# Altium footprint library Discrete.PcbLib: 16 footprints
Each footprint in its own frame and in the unit in brackets; x right, y up, seen from the top. Pads: shape width x height; smd on the part's side, far side on the other; paste and mask are expansions set on the pad; w line width, h text height; cw(c..) or ccw(c..) is an arc to the next point about the centre after c.
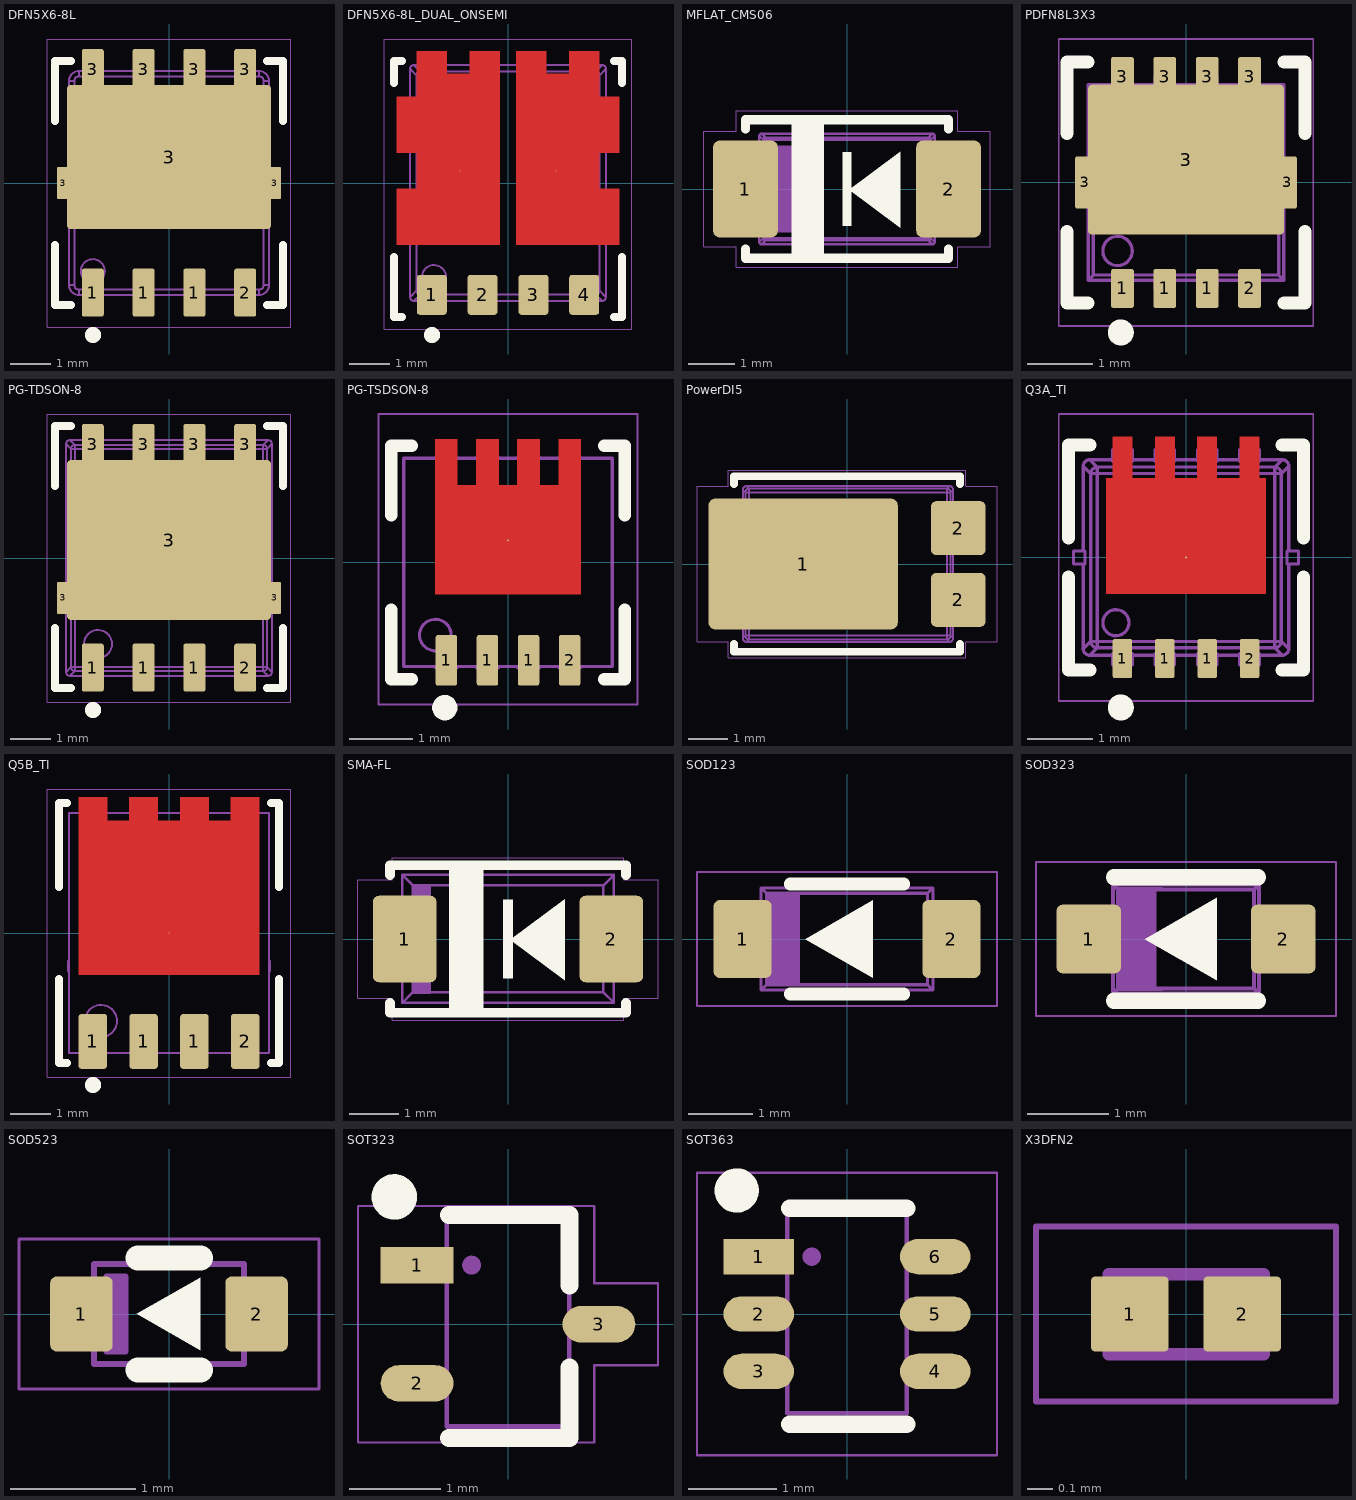
[diagram p0: the footprints below, top view; thin cyan lines are the x and y axes]

## DFN5X6-8L [mm] "Power 5mm x 6mm"
height 1
pads (11):
  rrect20% 0.55x1.2 smd paste-0.05 mask+0.05: 1(-1.905,-2.74) 1(-0.635,-2.74) 1(0.635,-2.74) 2(1.905,-2.74)
  rrect20% 0.3x0.8 smd paste-1 mask+0.05: 3(-2.65,0) 3(2.65,0)
  rrect20% 0.55x1 smd paste-0.05 mask+0.05: 3(-1.905,2.85) 3(-0.635,2.85) 3(0.635,2.85) 3(1.905,2.85)
  rrect5% 5.1x3.6 smd paste-3 mask+0.05: 3(0,0.65)
Top Overlay:
  circle w0.2: c-1.9,-3.8 r0.1
  lines w0.2: -2.85,-1.55 -2.85,-3.05 -2.45,-3.05 ; -2.85,1.55 -2.85,3.05 -2.45,3.05 ; 2.45,-3.05 2.85,-3.05 2.85,-1.55 ; 2.45,3.05 2.85,3.05 2.85,1.55
Top Paste:
  rectangle: -1.5,-0.9 -0.9,-0.3
  rectangle: -2.3,-0.9 -1.7,-0.3
  rectangle: -1.5,-0.1 -0.9,0.5
  rectangle: -2.3,-0.1 -1.7,0.5
  region: -0.9,1.3 -1.5,1.3 -1.5,0.7 -0.9,0.7
  region: -1.7,1.3 -2.3,1.3 -2.3,0.7 -1.7,0.7
  region: -0.9,2.1 -1.5,2.1 -1.5,1.5 -0.9,1.5
  region: -1.7,2.1 -2.3,2.1 -2.3,1.5 -1.7,1.5
  rectangle: -0.7,-0.9 -0.1,-0.3
  rectangle: -0.7,-0.1 -0.1,0.5
  region: -0.1,1.3 -0.7,1.3 -0.7,0.7 -0.1,0.7
  region: -0.1,2.1 -0.7,2.1 -0.7,1.5 -0.1,1.5
  rectangle: 0.1,-0.9 0.7,-0.3
  rectangle: 0.1,-0.1 0.7,0.5
  region: 0.7,1.3 0.1,1.3 0.1,0.7 0.7,0.7
  region: 0.7,2.1 0.1,2.1 0.1,1.5 0.7,1.5
  rectangle: 0.9,-0.9 1.5,-0.3
  rectangle: 0.9,-0.1 1.5,0.5
  region: 1.5,1.3 0.9,1.3 0.9,0.7 1.5,0.7
  region: 1.5,2.1 0.9,2.1 0.9,1.5 1.5,1.5
  rectangle: 1.7,-0.9 2.3,-0.3
  rectangle: 1.7,-0.1 2.3,0.5
  region: 2.3,1.3 1.7,1.3 1.7,0.7 2.3,0.7
  region: 2.3,2.1 1.7,2.1 1.7,1.5 2.3,1.5
Top Courtyard:
  lines w0.025: -3.05,-3.6 -3.05,3.6 3.05,3.6 3.05,-3.6 -3.05,-3.6
Top Assembly:
  circle w0.05: c-1.905,-2.205 r0.3
  lines w0.05: -2.5,-0.15 -2.65,-0.15 -2.65,0.15 -2.5,0.15 ; -2.115,-2.8 -2.115,-3.04 -1.695,-3.04 -1.695,-2.8 ; -2.115,2.8 -2.115,3.04 -1.695,3.04 -1.695,2.8 ; -0.845,-2.8 -0.845,-3.04 -0.425,-3.04 -0.425,-2.8 ; -0.845,2.8 -0.845,3.04 -0.425,3.04 -0.425,2.8 ; 0.425,-2.8 0.425,-3.04 0.845,-3.04 0.845,-2.8 ; 0.425,2.8 0.425,3.04 0.845,3.04 0.845,2.8 ; 1.695,-2.8 1.695,-3.04 2.115,-3.04 2.115,-2.8 ; 1.695,2.8 1.695,3.04 2.115,3.04 2.115,2.8 ; 2.5,-0.15 2.65,-0.15 2.65,0.15 2.5,0.15 ; -2.5,-2.55 ccw(c-2.25,-2.55) -2.25,-2.8 ; -2.5,-2.55 -2.368,-2.55 ; -2.5,-2.55 -2.5,2.55 ; -2.5,2.55 cw(c-2.25,2.55) -2.25,2.8 ; -2.5,2.55 -2.368,2.55 ; -2.368,-2.55 ccw(c-2.25,-2.55) -2.25,-2.668 ; -2.368,-2.55 -2.368,2.55 ; -2.368,2.55 cw(c-2.25,2.55) -2.25,2.668 ; -2.25,-2.8 -2.25,-2.668 ; -2.25,-2.8 2.25,-2.8 ; -2.25,-2.668 2.25,-2.668 ; -2.25,2.668 2.25,2.668 ; -2.25,2.668 -2.25,2.8 ; -2.25,2.8 2.25,2.8 ; 2.25,-2.8 ccw(c2.25,-2.55) 2.5,-2.55 ; 2.25,-2.8 2.25,-2.668 ; 2.25,-2.668 ccw(c2.25,-2.55) 2.368,-2.55 ; 2.25,2.668 cw(c2.25,2.55) 2.368,2.55 ; 2.25,2.668 2.25,2.8 ; 2.25,2.8 cw(c2.25,2.55) 2.5,2.55 ; 2.368,-2.55 2.368,2.55 ; 2.368,-2.55 2.5,-2.55 ; 2.368,2.55 2.5,2.55 ; 2.5,-2.55 2.5,2.55
  text ".Designator" at -4.511,-0.453 h2
3D body "DFN5X6-8L.x_t": height 1.03, standoff 0, extent -2.65,-3.04 2.65,3.04

## DFN5X6-8L_DUAL_ONSEMI [mm] "DFN8 5x6, 1.27P Dual Flag, CASE 506BT"
height 1
pads (6):
  rrect20% 0.75x1 smd paste-0.05 mask+0.05: 1(-1.905,-2.795) 2(-0.635,-2.795) 3(0.635,-2.795) 4(1.905,-2.795)
  round 0.025 smd paste-2 mask+0.05: 5(1.2,0.3)
  round 0.025 smd paste-3 mask+0.05: 6(-1.2,0.3)
Top Layer:
  region: 0.2,-1.545 2.775,-1.545 2.775,-0.145 2.28,-0.145 2.28,0.755 2.775,0.755 2.775,2.155 2.28,2.155 2.28,3.295 1.53,3.295 1.53,2.735 0.95,2.735 0.95,3.295 0.2,3.295
  region: -2.775,-1.545 -0.2,-1.545 -0.2,3.295 -0.95,3.295 -0.95,2.735 -1.53,2.735 -1.53,3.295 -2.28,3.295 -2.28,2.155 -2.775,2.155 -2.775,0.755 -2.28,0.755 -2.28,-0.145 -2.775,-0.145
Top Overlay:
  circle w0.2: c-1.9,-3.8 r0.1
  lines w0.2: -2.85,-1.85 -2.85,-3.35 -2.65,-3.35 ; -2.85,2.5 -2.85,3.05 -2.65,3.05 ; 2.65,-3.35 2.85,-3.35 2.85,-1.85 ; 2.65,3.05 2.85,3.05 2.85,2.5
Top Paste:
  region: 1.3,-0.5 0.3,-0.5 0.3,-1.4 1.3,-1.4
  region: 0.85,3.2 0.3,3.2 0.3,2.2 0.85,2.2
  region: 2.2,3.2 1.65,3.2 1.65,2.2 2.2,2.2
  region: 2.15,0.75 0.3,0.75 0.3,-0.25 2.15,-0.25
  region: 2.6,-0.5 1.6,-0.5 1.6,-1.4 2.6,-1.4
  region: 1.3,1.9 0.3,1.9 0.3,1 1.3,1
  region: 2.6,1.9 1.6,1.9 1.6,1 2.6,1
  rectangle: -1.3,-1.4 -0.3,-0.5
  rectangle: -0.85,2.2 -0.3,3.2
  rectangle: -2.2,2.2 -1.65,3.2
  rectangle: -2.15,-0.25 -0.3,0.75
  rectangle: -2.6,-1.4 -1.6,-0.5
  rectangle: -1.3,1 -0.3,1.9
  rectangle: -2.6,1 -1.6,1.9
Top Courtyard:
  lines w0.025: -3.1,-3.65 -3.1,3.6 3.1,3.6 3.1,-3.65 -3.1,-3.65
Top Assembly:
  circle w0.05: c-1.85,-2.35 r0.3
  lines w0.05: -2.45,-0.635 -2.575,-0.635 -2.575,-0.215 -2.45,-0.215 ; -2.45,1.365 -2.575,1.365 -2.575,1.785 -2.45,1.785 ; -2.115,-2.95 -2.115,-3.075 -1.695,-3.075 -1.695,-2.95 ; -2.115,2.95 -2.115,3.075 -1.695,3.075 -1.695,2.95 ; -0.845,-2.95 -0.845,-3.075 -0.425,-3.075 -0.425,-2.95 ; -0.845,2.95 -0.845,3.075 -0.425,3.075 -0.425,2.95 ; 0.425,-2.95 0.425,-3.075 0.845,-3.075 0.845,-2.95 ; 0.425,2.95 0.425,3.075 0.845,3.075 0.845,2.95 ; 1.695,-2.95 1.695,-3.075 2.115,-3.075 2.115,-2.95 ; 1.695,2.95 1.695,3.075 2.115,3.075 2.115,2.95 ; 2.45,-0.635 2.575,-0.635 2.575,-0.215 2.45,-0.215 ; 2.45,1.365 2.575,1.365 2.575,1.785 2.45,1.785 ; -2.45,-2.852 ccw(c-2.35,-2.85) -2.352,-2.95 ; -2.45,-2.852 -2.291,-2.693 ; -2.45,-2.852 -2.45,-2.85 -2.45,2.85 -2.45,2.852 ; -2.45,2.852 cw(c-2.35,2.85) -2.352,2.95 ; -2.45,2.852 -2.291,2.693 ; -2.352,-2.95 -2.193,-2.791 ; -2.352,-2.95 -2.35,-2.95 2.35,-2.95 2.352,-2.95 ; -2.352,2.95 -2.193,2.791 ; -2.352,2.95 -2.35,2.95 2.35,2.95 2.352,2.95 ; -2.291,-2.693 ccw(c-2.193,-2.693) -2.193,-2.791 ; -2.291,-2.693 -2.291,2.693 ; -2.291,2.693 cw(c-2.193,2.693) -2.193,2.791 ; -2.193,-2.791 2.193,-2.791 ; -2.193,2.791 2.193,2.791 ; 2.193,-2.791 ccw(c2.193,-2.693) 2.291,-2.693 ; 2.193,-2.791 2.352,-2.95 ; 2.193,2.791 cw(c2.193,2.693) 2.291,2.693 ; 2.193,2.791 2.352,2.95 ; 2.291,-2.693 2.45,-2.852 ; 2.291,-2.693 2.291,2.693 ; 2.291,2.693 2.45,2.852 ; 2.352,-2.95 ccw(c2.35,-2.85) 2.45,-2.852 ; 2.352,2.95 cw(c2.35,2.85) 2.45,2.852 ; 2.45,-2.852 2.45,-2.85 2.45,2.85 2.45,2.852
  text ".Designator" at -4.511,-0.453 h2
3D body "DFN8_5x6_DUAL.x_t": height 1.03, standoff 0.01, extent -2.575,-3.075 2.575,3.075

## MFLAT_CMS06 [mm] "Toshiba M-FLAT package, ref 3-4E1A"
height 0.98
pads (2):
  rrect20% 1.4x2.1 smd paste-2 mask+0.05: 1(-2.2,0) 2(2.2,0)
Top Overlay:
  rectangle: -0.1,-0.8 0.1,0.8
  rectangle: -1.2,-1.5 -0.5,1.5
  region: 1.15,0.812 0.05,-0.013 1.15,-0.838
  lines w0.2: -2.2,-1.3 -2.2,-1.5 2.2,-1.5 2.2,-1.3 ; -2.2,1.3 -2.2,1.5 2.2,1.5 2.2,1.3
Top Paste:
  rectangle: -2.9,0.15 -2.35,1.05
  rectangle: -2.9,-1.05 -2.35,-0.15
  rectangle: -2.05,-1.05 -1.5,-0.15
  rectangle: -2.05,0.15 -1.5,1.05
  rectangle: 1.5,0.15 2.05,1.05
  rectangle: 1.5,-1.05 2.05,-0.15
  rectangle: 2.35,-1.05 2.9,-0.15
  rectangle: 2.35,0.15 2.9,1.05
Top Courtyard:
  lines w0.025: -3.1,-1.25 -3.1,1.25 -2.4,1.25 -2.4,1.7 2.4,1.7 2.4,1.25 3.1,1.25 3.1,-1.25 2.4,-1.25 2.4,-1.7 -2.4,-1.7 -2.4,-1.25 -3.1,-1.25
Top Assembly:
  lines w0.05: -1.9,-0.875 -2.35,-0.875 -2.35,0.875 -1.9,0.875 ; -1.567,-0.917 -1.567,0.917 ; -1.517,-0.917 -1.517,0.917 ; -1.467,-0.917 -1.467,0.917 ; -1.417,-0.917 -1.417,0.917 ; -1.367,-0.917 -1.367,0.917 ; -1.317,-0.917 -1.317,0.917 ; -1.267,-0.917 -1.267,0.917 ; -1.217,-0.917 -1.217,0.917 ; -1.167,-0.917 -1.167,0.917 ; 1.9,-0.875 2.35,-0.875 2.35,0.875 1.9,0.875 ; -1.9,-1.15 ccw(c-1.85,-1.15) -1.85,-1.2 ; -1.9,-1.15 -1.9,1.15 ; -1.9,-1.15 -1.817,-1.067 ; -1.9,1.15 cw(c-1.85,1.15) -1.85,1.2 ; -1.9,1.15 -1.817,1.067 ; -1.85,-1.2 1.85,-1.2 ; -1.85,-1.2 -1.767,-1.117 ; -1.85,1.2 1.85,1.2 ; -1.85,1.2 -1.767,1.117 ; -1.817,-1.067 ccw(c-1.766,-1.066) -1.767,-1.117 ; -1.817,-1.067 -1.817,1.067 ; -1.817,-1.067 1.817,-1.067 ; -1.817,1.067 cw(c-1.766,1.066) -1.767,1.117 ; -1.817,1.067 1.817,1.067 ; -1.767,-1.117 1.767,-1.117 ; -1.767,-1.117 -1.767,1.117 ; -1.767,1.117 1.767,1.117 ; 1.767,-1.117 ccw(c1.766,-1.066) 1.817,-1.067 ; 1.767,-1.117 1.85,-1.2 ; 1.767,-1.117 1.767,1.117 ; 1.767,1.117 cw(c1.766,1.066) 1.817,1.067 ; 1.767,1.117 1.85,1.2 ; 1.817,-1.067 1.9,-1.15 ; 1.817,-1.067 1.817,1.067 ; 1.817,1.067 1.9,1.15 ; 1.85,-1.2 ccw(c1.85,-1.15) 1.9,-1.15 ; 1.85,1.2 cw(c1.85,1.15) 1.9,1.15 ; 1.9,-1.15 1.9,1.15 ; -1.617,-0.917 -1.117,-0.917 -1.117,0.917 -1.617,0.917 -1.617,-0.917
  text ".Designator" at -3.378,-0.339 h1.5
3D body "MFLAT_CMS06.x_t": height 0.99, standoff 0, extent -2.35,-1.2 2.35,1.2

## PDFN8L3X3 [mm] "Power 3mm x 3mm"
height 1
pads (11):
  rrect20% 0.35x0.6 smd paste-0.05 mask+0.05: 1(-0.975,-1.625) 1(-0.325,-1.625) 1(0.325,-1.625) 2(0.975,-1.625) 3(-0.975,1.625) 3(-0.325,1.625) 3(0.325,1.625) 3(0.975,1.625)
  rrect20% 0.3x0.8 smd paste-1 mask+0.05: 3(-1.55,0) 3(1.55,0)
  rrect5% 3x2.3 smd paste-5 mask+0.05: 3(0,0.35)
Top Overlay:
  circle w0.2: c-1,-2.3 r0.1
  lines w0.2: -1.825,-0.75 -1.825,-1.85 -1.5,-1.85 ; -1.825,0.75 -1.825,1.85 -1.5,1.85 ; 1.5,-1.85 1.825,-1.85 1.825,-0.75 ; 1.5,1.85 1.825,1.85 1.825,0.75
Top Paste:
  rectangle: 0.1,-0.75 0.6,-0.25
  rectangle: 0.8,-0.75 1.3,-0.25
  rectangle: -0.6,-0.75 -0.1,-0.25
  rectangle: -1.3,-0.75 -0.8,-0.25
  rectangle: 0.1,-0.05 0.6,0.45
  rectangle: 0.8,-0.05 1.3,0.45
  rectangle: -0.6,-0.05 -0.1,0.45
  rectangle: -1.3,-0.05 -0.8,0.45
  region: -0.1,1.15 -0.6,1.15 -0.6,0.65 -0.1,0.65
  region: -0.8,1.15 -1.3,1.15 -1.3,0.65 -0.8,0.65
  region: 0.6,1.15 0.1,1.15 0.1,0.65 0.6,0.65
  region: 1.3,1.15 0.8,1.15 0.8,0.65 1.3,0.65
Top Courtyard:
  lines w0.025: -1.95,-2.2 1.95,-2.2 1.95,2.2 -1.95,2.2 -1.95,-2.2
Top Assembly:
  circle w0.05: c-1.05,-1.05 r0.225
  lines w0.05: -1.5,-0.125 -1.6,-0.125 -1.6,0.125 -1.5,0.125 ; -1.125,-1.5 -1.5,-1.5 ; -1.125,1.5 -1.5,1.5 ; -0.825,-1.5 -0.475,-1.5 ; -0.825,1.5 -0.475,1.5 ; -0.175,-1.5 0.175,-1.5 ; -0.175,1.5 0.175,1.5 ; 0.475,-1.5 0.825,-1.5 ; 0.475,1.5 0.825,1.5 ; 1.125,-1.5 1.5,-1.5 ; 1.125,1.5 1.5,1.5 ; 1.5,-0.125 1.6,-0.125 1.6,0.125 1.5,0.125 ; -1.5,-1.5 -1.42,-1.42 ; -1.5,-1.5 -1.5,1.5 ; -1.5,1.5 -1.42,1.42 ; -1.42,-1.42 1.42,-1.42 ; -1.42,-1.42 -1.42,1.42 ; -1.42,1.42 1.42,1.42 ; 1.42,-1.42 1.42,1.42 ; 1.42,-1.42 1.5,-1.5 ; 1.42,1.42 1.5,1.5 ; 1.5,-1.5 1.5,1.5 ; -1.125,-1.63 -0.825,-1.63 -0.825,-1.498 -1.125,-1.498 -1.125,-1.63 ; -1.125,1.498 -0.825,1.498 -0.825,1.63 -1.125,1.63 -1.125,1.498 ; -0.475,-1.63 -0.175,-1.63 -0.175,-1.498 -0.475,-1.498 -0.475,-1.63 ; -0.475,1.498 -0.175,1.498 -0.175,1.63 -0.475,1.63 -0.475,1.498 ; 0.175,-1.63 0.175,-1.498 0.475,-1.498 0.475,-1.63 0.175,-1.63 ; 0.175,1.498 0.475,1.498 0.475,1.63 0.175,1.63 0.175,1.498 ; 0.825,-1.63 1.125,-1.63 1.125,-1.498 0.825,-1.498 0.825,-1.63 ; 0.825,1.498 1.125,1.498 1.125,1.63 0.825,1.63 0.825,1.498
  text ".Designator" at -4.511,-0.453 h2
3D body "PDFN8L3X3.STEP": height 0.9, standoff 0, extent -1.6,-1.63 1.6,1.63

## PG-TDSON-8 [mm] "Power 5mm x 6mm"
height 1
pads (11):
  rrect20% 0.55x1.2 smd paste-0.05 mask+0.05: 1(-1.905,-2.74) 1(-0.635,-2.74) 1(0.635,-2.74) 2(1.905,-2.74)
  rrect20% 0.3x0.8 smd paste-1 mask+0.05: 3(-2.65,-1) 3(2.65,-1)
  rrect20% 0.55x1 smd paste-0.05 mask+0.05: 3(-1.905,2.85) 3(-0.635,2.85) 3(0.635,2.85) 3(1.905,2.85)
  rrect5% 5.1x4 smd paste-3 mask+0.05: 3(0,0.45)
Top Overlay:
  circle w0.2: c-1.9,-3.8 r0.1
  lines w0.2: -2.85,-1.75 -2.85,-3.25 -2.45,-3.25 ; -2.85,1.8 -2.85,3.3 -2.45,3.3 ; 2.45,-3.25 2.85,-3.25 2.85,-1.75 ; 2.45,3.3 2.85,3.3 2.85,1.8
Top Paste:
  region: 2.45,-0.5 1.45,-0.5 1.45,-1.5 2.45,-1.5
  region: 2.45,2.1 1.45,2.1 1.45,1.1 2.45,1.1
  region: 2.45,0.8 1.45,0.8 1.45,-0.2 2.45,-0.2
  region: 1.15,-0.5 0.15,-0.5 0.15,-1.5 1.15,-1.5
  region: 1.15,2.1 0.15,2.1 0.15,1.1 1.15,1.1
  region: 1.15,0.8 0.15,0.8 0.15,-0.2 1.15,-0.2
  region: -0.15,-0.5 -1.15,-0.5 -1.15,-1.5 -0.15,-1.5
  region: -0.15,2.1 -1.15,2.1 -1.15,1.1 -0.15,1.1
  region: -0.15,0.8 -1.15,0.8 -1.15,-0.2 -0.15,-0.2
  region: -1.45,-0.5 -2.45,-0.5 -2.45,-1.5 -1.45,-1.5
  region: -1.45,0.8 -2.45,0.8 -2.45,-0.2 -1.45,-0.2
  region: -1.45,2.1 -2.45,2.1 -2.45,1.1 -1.45,1.1
Top Courtyard:
  lines w0.025: -3.05,-3.6 -3.05,3.6 3.05,3.6 3.05,-3.6 -3.05,-3.6
Top Assembly:
  circle w0.05: c-1.775,-2.15 r0.35
  lines w0.05: -2.575,-1.2 -2.66,-1.2 -2.66,-0.8 -2.575,-0.8 ; -2.117,-2.95 -2.117,-3.075 -1.693,-3.075 -1.693,-2.95 ; -2.117,2.95 -2.117,3.075 -1.693,3.075 -1.693,2.95 ; -0.847,-2.95 -0.847,-3.075 -0.423,-3.075 -0.423,-2.95 ; -0.847,2.95 -0.847,3.075 -0.423,3.075 -0.423,2.95 ; 0.423,-2.95 0.423,-3.075 0.847,-3.075 0.847,-2.95 ; 0.423,2.95 0.423,3.075 0.847,3.075 0.847,2.95 ; 1.693,-2.95 1.693,-3.075 2.117,-3.075 2.117,-2.95 ; 1.693,2.95 1.693,3.075 2.117,3.075 2.117,2.95 ; 2.575,-1.2 2.66,-1.2 2.66,-0.8 2.575,-0.8 ; -2.575,-2.852 ccw(c-2.475,-2.85) -2.477,-2.95 ; -2.575,-2.852 -2.454,-2.731 ; -2.575,-2.852 -2.575,-2.85 -2.575,2.85 -2.575,2.852 ; -2.575,2.852 cw(c-2.475,2.85) -2.477,2.95 ; -2.575,2.852 -2.454,2.731 ; -2.477,-2.95 -2.356,-2.829 ; -2.477,-2.95 -2.475,-2.95 2.475,-2.95 2.477,-2.95 ; -2.477,2.95 -2.356,2.829 ; -2.477,2.95 -2.475,2.95 2.475,2.95 2.477,2.95 ; -2.454,-2.731 ccw(c-2.352,-2.727) -2.356,-2.829 ; -2.454,-2.731 2.454,-2.731 ; -2.454,-2.731 -2.454,2.731 ; -2.454,2.731 cw(c-2.352,2.727) -2.356,2.829 ; -2.454,2.731 2.454,2.731 ; -2.356,-2.829 -2.356,2.829 ; -2.356,-2.829 2.356,-2.829 ; -2.356,2.829 2.356,2.829 ; 2.356,-2.829 ccw(c2.352,-2.727) 2.454,-2.731 ; 2.356,-2.829 2.356,2.829 ; 2.356,-2.829 2.477,-2.95 ; 2.356,2.829 cw(c2.352,2.727) 2.454,2.731 ; 2.356,2.829 2.477,2.95 ; 2.454,-2.731 2.454,2.731 ; 2.454,-2.731 2.575,-2.852 ; 2.454,2.731 2.575,2.852 ; 2.477,-2.95 ccw(c2.475,-2.85) 2.575,-2.852 ; 2.477,2.95 cw(c2.475,2.85) 2.575,2.852 ; 2.575,-2.852 2.575,-2.85 2.575,2.85 2.575,2.852
  text ".Designator" at -4.511,-0.453 h2
3D body "PG-TDSON-8_Infineon.x_t": height 1.02, standoff 0, extent -2.66,-3.075 2.66,3.075

## PG-TSDSON-8 [mm] "Power 3.3mm x 3.3mm"
height 1
pads (5):
  rrect20% 0.34x0.8 smd paste-0.025 mask+0.05: 1(-0.975,-1.55) 1(-0.325,-1.55) 1(0.325,-1.55) 2(0.975,-1.55)
  round 0.025 smd paste-5 mask+0.05: 3(0,0.35)
Top Layer:
  region: -1.15,1.95 -1.15,-0.5 1.15,-0.5 1.15,1.95 0.8,1.95 0.8,1.225 0.5,1.225 0.5,1.95 0.15,1.95 0.15,1.225 -0.15,1.225 -0.15,1.95 -0.5,1.95 -0.5,1.225 -0.8,1.225 -0.8,1.95
Top Overlay:
  circle w0.2: c-1,-2.3 r0.1
  lines w0.2: -1.85,-0.75 -1.85,-1.85 -1.525,-1.85 ; -1.85,0.75 -1.85,1.85 -1.525,1.85 ; 1.525,-1.85 1.85,-1.85 1.85,-0.75 ; 1.525,1.85 1.85,1.85 1.85,0.75
Top Paste:
  rectangle: -1.12,0.361 -0.15,0.896
  region: 1.12,0.896 0.15,0.896 0.15,0.361 1.12,0.361
  region: 1.12,1.92 0.83,1.92 0.83,1.2 1.12,1.2
  region: -0.18,1.92 -0.47,1.92 -0.47,1.2 -0.18,1.2
  region: 0.47,1.92 0.18,1.92 0.18,1.2 0.47,1.2
  rectangle: -1.12,-0.475 -0.15,0.061
  region: 1.12,0.061 0.15,0.061 0.15,-0.475 1.12,-0.475
  region: -0.83,1.92 -1.12,1.92 -1.12,1.2 -0.83,1.2
Top Courtyard:
  lines w0.025: -2.05,-2.25 2.05,-2.25 2.05,2.35 -2.05,2.35 -2.05,-2.25
Top Assembly:
  circle w0.05: c-1.15,-1.15 r0.25
  lines w0.05: -1.145,-1.65 -1.145,-1.67 -0.805,-1.67 -0.805,-1.65 ; -1.145,1.65 -1.145,1.67 -0.805,1.67 -0.805,1.65 ; -0.495,-1.65 -0.495,-1.67 -0.155,-1.67 -0.155,-1.65 ; -0.495,1.65 -0.495,1.67 -0.155,1.67 -0.155,1.65 ; 0.155,-1.65 0.155,-1.67 0.495,-1.67 0.495,-1.65 ; 0.155,1.65 0.155,1.67 0.495,1.67 0.495,1.65 ; 0.805,-1.65 0.805,-1.67 1.145,-1.67 1.145,-1.65 ; 0.805,1.65 0.805,1.67 1.145,1.67 1.145,1.65 ; -1.65,-1.65 -1.65,1.65 1.65,1.65 1.65,-1.65 -1.65,-1.65
  text ".Designator" at -4.511,-0.453 h2
3D body "PG-TSDSON-8.x_t": height 1.02, standoff 0, extent -1.65,-1.67 1.65,1.67

## PowerDI5 [mm] "PowerDI5 Case (like TO-277A)"
height 1.1
pads (3):
  rrect10% 4.86x3.36 smd paste-2 mask+0.05: 1(-1.126,0)
  rrect20% 1.4x1.39 smd paste-2 mask+0.05: 2(2.856,-0.92) 2(2.856,0.92)
Top Overlay:
  lines w0.2: -2.9,-2.05 -2.9,-2.25 2.9,-2.25 2.9,-2.05 ; -2.9,2.05 -2.9,2.25 2.9,2.25 2.9,2.05
Top Paste:
  rectangle: 2.156,1.07 2.706,1.62
  rectangle: 3.006,1.07 3.556,1.62
  rectangle: 2.156,0.22 2.706,0.77
  rectangle: 3.006,0.22 3.556,0.77
  rectangle: 2.156,-0.77 2.706,-0.22
  rectangle: 3.006,-0.77 3.556,-0.22
  rectangle: 2.156,-1.62 2.706,-1.07
  rectangle: 3.006,-1.62 3.556,-1.07
  rectangle: 0.15,-1.5 0.95,-0.7
  rectangle: 0.15,-0.4 0.95,0.4
  rectangle: 0.15,0.7 0.95,1.5
  rectangle: -0.95,-1.5 -0.15,-0.7
  rectangle: -0.95,-0.4 -0.15,0.4
  rectangle: -0.95,0.7 -0.15,1.5
  rectangle: -2.05,-1.5 -1.25,-0.7
  rectangle: -2.05,-0.4 -1.25,0.4
  rectangle: -2.05,0.7 -1.25,1.5
  rectangle: -3.15,-1.5 -2.35,-0.7
  rectangle: -3.15,-0.4 -2.35,0.4
  rectangle: -3.15,0.7 -2.35,1.5
Top Courtyard:
  lines w0.025: -3.85,-2 -3.85,2 -3.05,2 -3.05,2.4 3.05,2.4 3.05,2 3.85,2 3.85,-2 3.05,-2 3.05,-2.4 -3.05,-2.4 -3.05,-2 -3.85,-2
Top Assembly:
  lines w0.05: -2.675,-0.895 -3.225,-0.895 -3.225,-0.5 -3.125,-0.5 -3.125,0.5 -3.225,0.5 -3.225,0.895 -2.675,0.895 ; 2.725,-1.37 3.225,-1.37 3.225,-0.47 2.725,-0.47 ; 2.725,0.47 3.225,0.47 3.225,1.37 2.725,1.37 ; -2.675,-1.901 ccw(c-2.575,-1.9) -2.576,-2 ; -2.675,-1.9 -2.675,1.9 ; -2.675,-1.901 -2.675,-1.9 ; -2.675,-1.901 -2.611,-1.836 ; -2.675,1.901 cw(c-2.575,1.9) -2.576,2 ; -2.675,1.9 -2.675,1.901 ; -2.675,1.901 -2.611,1.836 ; -2.611,-1.836 ccw(c-2.51,-1.835) -2.511,-1.936 ; -2.611,-1.836 2.661,-1.836 ; -2.611,-1.836 -2.611,1.836 ; -2.611,1.836 cw(c-2.51,1.835) -2.511,1.936 ; -2.611,1.836 2.661,1.836 ; -2.575,-2 2.625,-2 ; -2.576,-2 -2.575,-2 ; -2.576,-2 -2.511,-1.936 ; -2.575,2 2.625,2 ; -2.576,2 -2.575,2 ; -2.576,2 -2.511,1.936 ; -2.511,-1.936 2.561,-1.936 ; -2.511,-1.936 -2.511,1.936 ; -2.511,1.936 2.561,1.936 ; 2.561,-1.936 ccw(c2.56,-1.835) 2.661,-1.836 ; 2.561,-1.936 2.626,-2 ; 2.561,-1.936 2.561,1.936 ; 2.561,1.936 cw(c2.56,1.835) 2.661,1.836 ; 2.561,1.936 2.626,2 ; 2.626,-2 ccw(c2.625,-1.9) 2.725,-1.901 ; 2.625,-2 2.626,-2 ; 2.626,2 cw(c2.625,1.9) 2.725,1.901 ; 2.625,2 2.626,2 ; 2.661,-1.836 2.725,-1.901 ; 2.661,-1.836 2.661,1.836 ; 2.661,1.836 2.725,1.901 ; 2.725,-1.9 2.725,1.9 ; 2.725,-1.901 2.725,-1.9 ; 2.725,1.901 2.725,1.9
  text ".Designator" at -3.378,-0.339 h1.5
3D body "PowerDI5.x_t": height 1.11, standoff 0, extent -3.25,-2 3.2,2

## Q3A_TI [mm] "Power 3mm x 3mm"
height 1
pads (5):
  rrect20% 0.3x0.6 smd paste-0.03 mask+0.05: 1(-0.975,-1.55) 1(-0.325,-1.55) 1(0.325,-1.55) 2(0.975,-1.55)
  round 0.025 smd paste-3 mask+0.05: 3(0,0)
Top Layer:
  region: -1.125,1.215 -1.125,1.85 -0.825,1.85 -0.825,1.216 -0.475,1.216 -0.475,1.85 -0.175,1.85 -0.175,1.215 0.175,1.215 0.175,1.85 0.475,1.85 0.475,1.215 0.825,1.215 0.825,1.85 1.125,1.85 1.125,1.215 1.225,1.215 1.225,-0.56 -1.225,-0.56 -1.225,1.215
Top Overlay:
  circle w0.2: c-1,-2.3 r0.1
  lines w0.2: -1.8,-0.3 -1.8,-1.725 -1.475,-1.725 ; -1.8,0.3 -1.8,1.725 -1.475,1.725 ; 1.475,-1.725 1.8,-1.725 1.8,-0.3 ; 1.475,1.725 1.8,1.725 1.8,0.3
Top Paste:
  region: 1.1,-1.28 0.85,-1.28 0.85,-1.82 1.1,-1.82
  region: -0.85,1.82 -1.1,1.82 -1.1,1.28 -0.85,1.28
  region: 0.45,1.82 0.2,1.82 0.2,1.28 0.45,1.28
  region: -0.2,1.82 -0.45,1.82 -0.45,1.28 -0.2,1.28
  region: 1.1,1.82 0.85,1.82 0.85,1.28 1.1,1.28
  region: -0.15,0.98 -1.15,0.98 -1.15,0.38 -0.15,0.38
  region: 1.15,0.98 0.15,0.98 0.15,0.38 1.15,0.38
  region: -0.15,0.08 -1.15,0.08 -1.15,-0.52 -0.15,-0.52
  region: 1.15,0.08 0.15,0.08 0.15,-0.52 1.15,-0.52
Top Courtyard:
  lines w0.025: -1.95,-2.2 1.95,-2.2 1.95,2.2 -1.95,2.2 -1.95,-2.2
Top Assembly:
  circle w0.05: c-1.075,-1 r0.2
  lines w0.05: -1.575,-0.1 -1.575,-1.401 ; -1.575,0.1 -1.575,1.401 ; -1.125,-1.5 -1.476,-1.5 ; -1.125,1.5 -1.476,1.5 ; -0.825,-1.5 -0.475,-1.5 ; -0.825,1.5 -0.475,1.5 ; -0.175,-1.5 0.175,-1.5 ; -0.175,1.5 0.175,1.5 ; 0.475,-1.5 0.825,-1.5 ; 0.475,1.5 0.825,1.5 ; 1.125,-1.5 1.476,-1.5 ; 1.125,1.5 1.476,1.5 ; 1.575,-0.1 1.575,-1.401 ; 1.575,0.1 1.575,1.401 ; -1.575,-1.401 ccw(c-1.476,-1.401) -1.476,-1.5 ; -1.575,-1.401 -1.461,-1.287 ; -1.575,1.401 cw(c-1.476,1.401) -1.476,1.5 ; -1.575,1.401 -1.461,1.287 ; -1.476,-1.5 -1.362,-1.386 ; -1.476,1.5 -1.362,1.386 ; -1.461,-1.287 ccw(c-1.359,-1.284) -1.362,-1.386 ; -1.461,-1.287 -1.461,1.287 ; -1.461,-1.287 1.461,-1.287 ; -1.461,1.287 cw(c-1.359,1.284) -1.362,1.386 ; -1.461,1.287 1.461,1.287 ; -1.362,-1.386 1.362,-1.386 ; -1.362,-1.386 -1.362,1.386 ; -1.362,1.386 1.362,1.386 ; 1.362,-1.386 ccw(c1.359,-1.284) 1.461,-1.287 ; 1.362,-1.386 1.476,-1.5 ; 1.362,-1.386 1.362,1.386 ; 1.362,1.386 cw(c1.359,1.284) 1.461,1.287 ; 1.362,1.386 1.476,1.5 ; 1.461,-1.287 1.575,-1.401 ; 1.461,-1.287 1.461,1.287 ; 1.461,1.287 1.575,1.401 ; 1.476,-1.5 ccw(c1.476,-1.401) 1.575,-1.401 ; 1.476,1.5 cw(c1.476,1.401) 1.575,1.401 ; -1.725,-0.1 -1.547,-0.1 -1.547,0.1 -1.725,0.1 -1.725,-0.1 ; -1.125,-1.65 -1.125,-1.472 -0.825,-1.472 -0.825,-1.65 -1.125,-1.65 ; -1.125,1.472 -1.125,1.65 -0.825,1.65 -0.825,1.472 -1.125,1.472 ; -0.475,-1.65 -0.475,-1.472 -0.175,-1.472 -0.175,-1.65 -0.475,-1.65 ; -0.475,1.472 -0.475,1.65 -0.175,1.65 -0.175,1.472 -0.475,1.472 ; 0.175,-1.65 0.475,-1.65 0.475,-1.472 0.175,-1.472 0.175,-1.65 ; 0.175,1.472 0.175,1.65 0.475,1.65 0.475,1.472 0.175,1.472 ; 0.825,-1.65 0.825,-1.472 1.125,-1.472 1.125,-1.65 0.825,-1.65 ; 0.825,1.472 0.825,1.65 1.125,1.65 1.125,1.472 0.825,1.472 ; 1.547,-0.1 1.725,-0.1 1.725,0.1 1.547,0.1 1.547,-0.1
  text ".Designator" at -4.511,-0.453 h2
3D body "Q3A_TI.x_t": height 0.95, standoff 0, extent -1.725,-1.65 1.725,1.65

## Q5B_TI [mm] "Power 5mm x 6mm"
height 1
pads (5):
  rrect20% 0.71x1.372 smd paste-0.05 mask+0.05: 1(-1.905,-2.71) 1(-0.635,-2.71) 1(0.635,-2.71) 2(1.905,-2.71)
  round 0.025 smd paste-3 mask+0.05: 3(0,0)
Top Layer:
  region: -2.26,3.396 -2.26,-1.044 2.26,-1.044 2.26,3.396 1.55,3.396 1.55,2.806 0.99,2.806 0.99,3.396 0.28,3.396 0.28,2.806 -0.28,2.806 -0.28,3.396 -0.99,3.396 -0.99,2.806 -1.55,2.806 -1.55,3.396
Top Overlay:
  circle w0.2: c-1.9,-3.8 r0.1
  lines w0.2: -2.75,-1.15 -2.75,-3.25 -2.55,-3.25 ; -2.75,1.15 -2.75,3.25 -2.55,3.25 ; 2.55,-3.25 2.75,-3.25 2.75,-1.15 ; 2.55,3.25 2.75,3.25 2.75,1.15
Top Paste:
  region: 2.05,0.536 1.25,0.536 1.25,-0.864 2.05,-0.864
  region: 2.05,2.236 1.25,2.236 1.25,0.836 2.05,0.836
  region: 0.95,0.536 0.15,0.536 0.15,-0.864 0.95,-0.864
  region: 0.95,2.236 0.15,2.236 0.15,0.836 0.95,0.836
  region: -0.15,0.536 -0.95,0.536 -0.95,-0.864 -0.15,-0.864
  region: -0.15,2.236 -0.95,2.236 -0.95,0.836 -0.15,0.836
  region: -1.25,0.536 -2.05,0.536 -2.05,-0.864 -1.25,-0.864
  region: -1.25,2.236 -2.05,2.236 -2.05,0.836 -1.25,0.836
  region: -1.655,3.286 -2.155,3.286 -2.155,2.536 -1.655,2.536
  region: 0.885,3.286 0.385,3.286 0.385,2.536 0.885,2.536
  region: -0.385,3.286 -0.885,3.286 -0.885,2.536 -0.385,2.536
  region: 2.155,3.286 1.655,3.286 1.655,2.536 2.155,2.536
Top Courtyard:
  lines w0.025: -3.05,-3.6 3.05,-3.6 3.05,3.6 -3.05,3.6 -3.05,-3.6
Top Assembly:
  circle w0.05: c-1.7,-2.2 r0.4
  lines w0.05: -2.5,-0.955 -2.52,-0.955 -2.52,-0.705 -2.5,-0.705 ; -2.11,-3 -2.11,-3.02 -1.7,-3.02 -1.7,-3 ; -2.11,3 -2.11,3.02 -1.7,3.02 -1.7,3 ; -0.84,-3 -0.84,-3.02 -0.43,-3.02 -0.43,-3 ; -0.84,3 -0.84,3.02 -0.43,3.02 -0.43,3 ; 0.43,-3 0.43,-3.02 0.84,-3.02 0.84,-3 ; 0.43,3 0.43,3.02 0.84,3.02 0.84,3 ; 1.7,-3 1.7,-3.02 2.11,-3.02 2.11,-3 ; 1.7,3 1.7,3.02 2.11,3.02 2.11,3 ; 2.5,-0.955 2.52,-0.955 2.52,-0.705 2.5,-0.705 ; -2.5,-3 -2.5,3 2.5,3 2.5,-3 -2.5,-3
  text ".Designator" at -4.511,-0.453 h2
3D body "Q5B_TI.x_t": height 1.02, standoff 0, extent -2.52,-3.02 2.52,3.02

## SMA-FL [mm] "SMA-FL Case 403AA Style 6"
height 1.2
pads (2):
  rrect20% 1.3x1.76 smd paste-2 mask+0.05: 1(-2.1,0) 2(2.1,0)
Top Overlay:
  rectangle: -0.1,-0.8 0.1,0.8
  rectangle: -1.2,-1.5 -0.5,1.5
  region: 1.15,0.812 0.05,-0.013 1.15,-0.838
  lines w0.2: -2.4,-1.3 -2.4,-1.5 2.4,-1.5 2.4,-1.3 ; -2.4,1.3 -2.4,1.5 2.4,1.5 2.4,1.3
Top Paste:
  rectangle: 2.2,-0.85 2.7,-0.1
  rectangle: 1.5,-0.85 2,-0.1
  rectangle: 2.2,0.1 2.7,0.85
  rectangle: 1.5,0.1 2,0.85
  rectangle: -2,-0.85 -1.5,-0.1
  rectangle: -2.7,-0.85 -2.2,-0.1
  rectangle: -2,0.1 -1.5,0.85
  rectangle: -2.7,0.1 -2.2,0.85
Top Courtyard:
  lines w0.025: -3.05,-1.2 -3.05,1.2 -2.35,1.2 -2.35,1.65 2.35,1.65 2.35,1.2 3.05,1.2 3.05,-1.2 2.35,-1.2 2.35,-1.65 -2.35,-1.65 -2.35,-1.2 -3.05,-1.2
Top Assembly:
  lines w0.05: -2.147,-0.722 -2.147,-1.297 ; -2.147,0.728 -2.147,1.303 ; -1.886,-1.091 -1.886,1.096 ; -1.836,-1.091 -1.836,1.096 ; -1.786,-1.091 -1.786,1.096 ; -1.736,-1.091 -1.736,1.096 ; -1.686,-1.091 -1.686,1.096 ; -1.636,-1.091 -1.636,1.096 ; -1.586,-1.086 1.941,-1.086 ; -1.586,1.091 1.941,1.091 ; 2.153,-0.722 2.153,-1.297 ; 2.153,0.728 2.153,1.303 ; -2.147,-1.297 -1.941,-1.091 ; -2.147,-1.297 2.153,-1.297 ; -2.147,1.303 -1.941,1.096 ; -2.147,1.303 2.153,1.303 ; -1.941,-1.091 -1.941,1.096 ; -1.941,-1.091 -1.586,-1.091 -1.586,1.096 -1.941,1.096 ; 1.941,-1.086 2.153,-1.297 ; 1.941,-1.086 1.941,1.091 ; 1.941,1.091 2.153,1.303 ; -2.547,-0.722 -2.077,-0.722 -2.077,0.728 -2.547,0.728 -2.547,-0.722 ; 2.082,-0.722 2.553,-0.722 2.553,0.728 2.082,0.728 2.082,-0.722
  text ".Designator" at -3.378,-0.339 h1.5
3D body "SMA_FL.x_t": height 1.21, standoff 0, extent -2.325,-1.275 2.325,1.275

## SOD123 [mm] "SOD123, 2-Leads, Body 1.60x2.7mm"
height 1.2
pads (2):
  rrect20% 0.91x1.22 smd mask+0.05: 1(-1.635,0) 2(1.635,0)
Top Overlay:
  region: 0.4,0.605 0.4,-0.605 -0.658,0
  lines w0.2: -0.889,-0.862 0.889,-0.862 ; -0.889,0.862 0.889,0.862
Top Courtyard:
  lines w0.025: -2.35,-1.05 2.35,-1.05 2.35,1.05 -2.35,1.05 -2.35,-1.05
Top Assembly:
  lines w0.05: -1.649,-0.305 -1.649,0.305 ; -1.513,-0.305 -1.513,0.305 ; -1.488,-0.305 -1.488,0.305 ; -1.345,-0.305 -1.345,-0.8 ; -1.345,0.305 -1.345,0.8 ; -1.338,-0.305 -1.338,0.305 ; -1.211,-0.716 -1.211,0.716 ; -1.161,-0.716 -1.161,0.716 ; -1.111,-0.716 -1.111,0.716 ; -1.061,-0.716 -1.061,0.716 ; -1.011,-0.716 -1.011,0.716 ; -0.961,-0.716 -0.961,0.716 ; -0.911,-0.716 -0.911,0.716 ; -0.861,-0.716 -0.861,0.716 ; -0.811,-0.716 -0.811,0.716 ; -0.761,-0.716 -0.761,0.716 ; 1.338,-0.305 1.338,0.305 ; 1.345,-0.305 1.345,-0.8 ; 1.345,0.305 1.345,0.8 ; 1.488,-0.305 1.488,0.305 ; 1.513,-0.305 1.513,0.305 ; 1.649,-0.305 1.649,0.305 ; -1.345,-0.8 -1.261,-0.716 ; -1.345,-0.8 1.345,-0.8 ; -1.345,0.8 1.345,0.8 ; -1.345,0.8 -1.261,0.716 ; -1.261,-0.716 -1.261,0.716 ; -1.261,-0.716 1.261,-0.716 ; -1.261,0.716 1.261,0.716 ; 1.261,-0.716 1.345,-0.8 ; 1.261,-0.716 1.261,0.716 ; 1.261,0.716 1.345,0.8 ; -1.84,-0.305 -1.84,0.305 -1.334,0.305 -1.334,-0.305 -1.84,-0.305 ; 1.334,-0.305 1.84,-0.305 1.84,0.305 1.334,0.305 1.334,-0.305
  text ".Designator" at -2.252,1.124 h1
3D body "SOD-123.x_t": height 1.35, standoff 0.1, extent -1.84,-0.8 1.84,0.8

## SOD323 [mm] "SOD323, 2-Leads, Body 1.80x1.35mm"
height 1.1
pads (2):
  rrect20% 0.8x0.85 smd mask+0.05: 1(-1.2,0) 2(1.2,0)
Top Overlay:
  region: 0.381,0.508 0.381,-0.508 -0.508,0
  lines w0.2: -0.889,-0.762 0.889,-0.762 ; -0.889,0.762 0.889,0.762
Top Courtyard:
  lines w0.025: -1.85,-0.95 1.85,-0.95 1.85,0.95 -1.85,0.95 -1.85,-0.95
Top Assembly:
  lines w0.05: -0.9,-0.2 -0.9,-0.675 ; -0.9,0.2 -0.9,0.675 ; -0.788,-0.613 -0.788,0.613 ; -0.738,-0.613 -0.738,0.613 ; -0.688,-0.613 -0.688,0.613 ; -0.638,-0.613 -0.638,0.613 ; -0.588,-0.613 -0.588,0.613 ; -0.538,-0.613 -0.538,0.613 ; -0.488,-0.613 -0.488,0.613 ; -0.438,-0.613 -0.438,0.613 ; -0.388,-0.613 -0.388,0.613 ; 0.9,-0.2 0.9,-0.675 ; 0.9,0.2 0.9,0.675 ; -1.157,-0.2 -1.11,-0.2 ; -1.157,-0.2 -1.3,-0.2 -1.3,0.2 -1.157,0.2 ; -1.157,-0.2 -1.157,0.2 ; -1.157,0.2 -1.11,0.2 ; -1.11,-0.2 -1.11,0.2 ; -1.11,-0.2 -0.91,-0.2 ; -1.11,0.2 -0.91,0.2 ; -0.91,-0.2 -0.879,-0.2 -0.879,0.2 -0.91,0.2 ; -0.91,-0.2 -0.91,0.2 ; -0.9,-0.675 0.9,-0.675 ; -0.9,-0.675 -0.838,-0.613 ; -0.9,0.675 -0.838,0.613 ; -0.9,0.675 0.9,0.675 ; -0.838,-0.613 -0.3,-0.613 ; -0.838,-0.613 -0.838,0.613 ; -0.838,0.613 -0.3,0.613 ; -0.3,-0.613 0.838,-0.613 ; -0.3,-0.613 -0.3,-0.613 ; -0.3,0.613 0.838,0.613 ; -0.3,0.613 -0.3,0.613 ; 0.838,-0.613 0.9,-0.675 ; 0.838,-0.613 0.838,0.613 ; 0.838,0.613 0.9,0.675 ; 0.91,-0.2 1.11,-0.2 ; 0.91,-0.2 0.879,-0.2 0.879,0.2 0.91,0.2 ; 0.91,-0.2 0.91,0.2 ; 0.91,0.2 1.11,0.2 ; 1.11,-0.2 1.11,0.2 ; 1.11,-0.2 1.157,-0.2 ; 1.11,0.2 1.157,0.2 ; 1.157,-0.2 1.3,-0.2 1.3,0.2 1.157,0.2 ; 1.157,-0.2 1.157,0.2
  text ".Designator" at -2.252,1.024 h1
3D body "SOD323.x_t": height 1, standoff 0, extent -1.325,-0.65 1.325,0.65

## SOD523 [mm] "SOD-523 (SC79), 2-Leads, Body 0.85x1.30mm"
height 0.77
pads (2):
  rrect20% 0.5x0.6 smd mask+0.05: 1(-0.7,0) 2(0.7,0)
Top Overlay:
  region: 0.25,0.29 0.25,-0.29 -0.258,0
  lines w0.2: -0.25,-0.45 0.25,-0.45 ; -0.25,0.45 0.25,0.45
Top Courtyard:
  lines w0.025: -1.2,-0.6 1.2,-0.6 1.2,0.6 -1.2,0.6 -1.2,-0.6
Top Assembly:
  lines w0.05: -0.45,-0.3 -0.45,0.3 ; -0.4,-0.3 -0.4,0.3 ; -0.6,-0.15 -0.6,-0.4 0.6,-0.4 0.6,-0.15 ; -0.6,-0.15 -0.6,0.15 ; -0.6,-0.15 -0.77,-0.15 -0.77,0.15 -0.6,0.15 ; -0.6,0.15 -0.6,0.4 0.6,0.4 0.6,0.15 ; 0.6,-0.15 0.6,0.15 ; 0.6,-0.15 0.77,-0.15 0.77,0.15 0.6,0.15 ; -0.5,-0.3 -0.5,0.3 -0.35,0.3 -0.35,-0.3 -0.5,-0.3
  text ".Designator" at -1.801,-0.181 h0.8
3D body "SOD-523.STEP": height 0.62, standoff 0, extent -0.77,-0.4 0.77,0.4

## SOT323 [mm] "SOT323 (SC70-3), 3-Leads, Body 1.25x2.10mm, Pitch 0.65mm"
height 0.95
pads (3):
  rect 0.8x0.4 smd paste+0 mask+0.05: 1(-1,0.65)
  oval 0.8x0.4 smd paste+0 mask+0.05: 2(-1,-0.65) 3(1,0)
Top Overlay:
  circle w0.25: c-1.25,1.4 r0.125
  lines w0.2: -0.65,-1.25 0.675,-1.25 0.675,-0.475 ; -0.65,1.2 0.675,1.2 0.675,0.425
Top Courtyard:
  lines w0.025: -1.65,-1.3 -1.65,1.3 0.95,1.3 0.95,0.45 1.65,0.45 1.65,-0.45 0.95,-0.45 0.95,-1.3 -1.65,-1.3
Top Assembly:
  circle w0.05: c-0.4,0.65 r0.079
  region: -0.479,0.65 -0.479,0.634 -0.467,0.605 -0.445,0.583 -0.416,0.571 -0.4,0.571 -0.384,0.571 -0.355,0.583 -0.333,0.605 -0.321,0.634 -0.321,0.65 -0.321,0.666 -0.333,0.695 -0.355,0.717 -0.384,0.729 -0.4,0.729 -0.416,0.729 -0.445,0.717 -0.467,0.695 -0.479,0.666
  lines w0.05: -1.1,-0.775 -1.1,-0.525 ; -1.1,0.525 -1.1,0.775 ; -0.8,-0.775 -0.8,-0.525 ; -0.8,0.525 -0.8,0.775 ; -0.675,-0.775 -1.3,-0.775 -1.3,-0.525 -0.675,-0.525 ; -0.675,0.525 -1.3,0.525 -1.3,0.775 -0.675,0.775 ; 0.675,-0.125 1.3,-0.125 1.3,0.125 0.675,0.125 ; 0.8,-0.125 0.8,0.125 ; 1.1,-0.125 1.1,0.125 ; -0.675,-1.125 -0.675,1.125 0.675,1.125 0.675,-1.125 -0.675,-1.125
  text ".Designator" at 0.226,-2.252 h1
3D body "SOT323.x_t": height 1.05, standoff 0, extent -1.125,-1.05 1.175,1.05

## SOT363 [mm] "SOT363, 6-Leads, Body 1.25x2.00mm, Pitch 0.65mm"
height 0.9
pads (6):
  rect 0.8x0.4 smd paste+0 mask+0.05: 1(-1,0.65)
  oval 0.8x0.4 smd paste+0 mask+0.05: 2(-1,0) 3(-1,-0.65) 4(1,-0.65) 5(1,0) 6(1,0.65)
Top Overlay:
  circle w0.25: c-1.25,1.4 r0.125
  lines w0.2: -0.65,-1.25 0.675,-1.25 ; -0.65,1.2 0.675,1.2
Top Courtyard:
  lines w0.025: -1.7,-1.6 1.7,-1.6 1.7,1.6 -1.7,1.6 -1.7,-1.6
Top Assembly:
  circle w0.05: c-0.4,0.65 r0.079
  region: -0.479,0.65 -0.479,0.634 -0.467,0.605 -0.445,0.583 -0.416,0.571 -0.4,0.571 -0.384,0.571 -0.355,0.583 -0.333,0.605 -0.321,0.634 -0.321,0.65 -0.321,0.666 -0.333,0.695 -0.355,0.717 -0.384,0.729 -0.4,0.729 -0.416,0.729 -0.445,0.717 -0.467,0.695 -0.479,0.666
  lines w0.05: -1.1,-0.775 -1.1,-0.525 ; -1.1,-0.125 -1.1,0.125 ; -1.1,0.525 -1.1,0.775 ; -0.8,-0.775 -0.8,-0.525 ; -0.8,-0.125 -0.8,0.125 ; -0.8,0.525 -0.8,0.775 ; -0.675,-0.775 -1.3,-0.775 -1.3,-0.525 -0.675,-0.525 ; -0.675,-0.125 -1.3,-0.125 -1.3,0.125 -0.675,0.125 ; -0.675,0.525 -1.3,0.525 -1.3,0.775 -0.675,0.775 ; 0.675,-0.775 1.3,-0.775 1.3,-0.525 0.675,-0.525 ; 0.675,-0.125 1.3,-0.125 1.3,0.125 0.675,0.125 ; 0.675,0.525 1.3,0.525 1.3,0.775 0.675,0.775 ; 0.8,-0.775 0.8,-0.525 ; 0.8,-0.125 0.8,0.125 ; 0.8,0.525 0.8,0.775 ; 1.1,-0.775 1.1,-0.525 ; 1.1,-0.125 1.1,0.125 ; 1.1,0.525 1.1,0.775 ; -0.675,-1.125 -0.675,1.125 0.675,1.125 0.675,-1.125 -0.675,-1.125
  text ".Designator" at 0.226,-2.252 h1
3D body "SOT363.x_t": height 0.95, standoff 0, extent -1.05,-1 1.05,1

## X3DFN2 [mm] "X3DFN2, 2-Leads, Body 0.32x0.62mm"
height 0.33
pads (2):
  rrect10% 0.31x0.3 smd mask+0.05: 1(-0.225,0) 2(0.225,0)
Top Solder:
  region: -0.35,0.2 -0.35,-0.2 0.35,-0.2 0.35,0.2
Top Courtyard:
  lines w0.025: -0.6,-0.35 -0.6,0.35 0.6,0.35 0.6,-0.35 -0.6,-0.35
Top Assembly:
  lines w0.05: -0.31,-0.16 -0.31,0.16 0.31,0.16 0.31,-0.16 -0.31,-0.16
  text ".Designator" at -1.801,0.319 h0.8
3D body "X3DFN2.x_t": height 0.3, standoff -0.03, extent -0.31,-0.16 0.31,0.16